# EAGLE library part TEENSY2.0++ (library Headers)
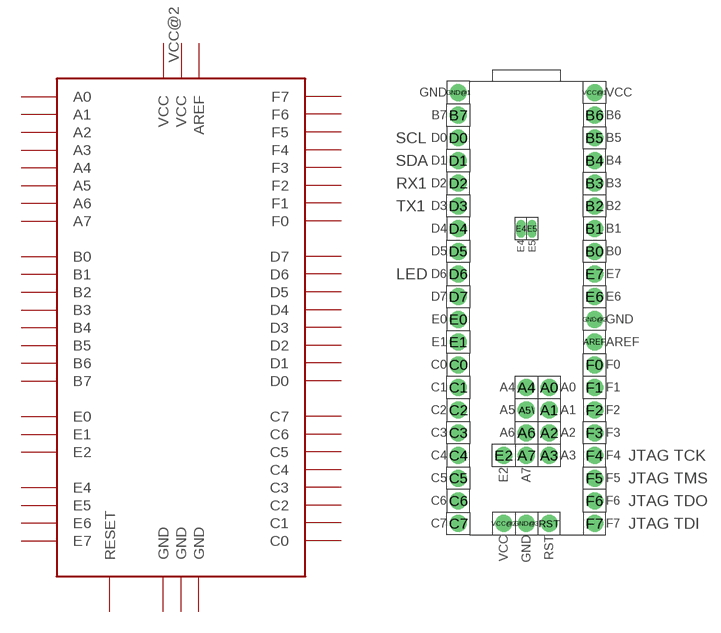
[diagram p3: symbol with the pads of TEENSY2.0++; footprint TEENSY2.0++]

Designator prefix U

## TEENSY2.0++  [TEENSY2.0++]
A0  A0
A1  A1
A2  A2
A3  A3
A4  A4
A5\  A5
A6  A6
A7  A7
AREF  AREF
B0  B0
B1  B1
B2  B2
B3  B3
B4  B4
B5  B5
B6  B6
B7  B7
C0  C0
C1  C1
C2  C2
C3  C3
C4  C4
C5  C5
C6  C6
C7  C7
D0  D0
D1  D1
D2  D2
D3  D3
D4  D4
D5  D5
D6  D6
D7  D7
E0  E0
E1  E1
E2  E2
E4  E4
E5  E5
E6  E6
E7  E7
F0  F0
F1  F1
F2  F2
F3  F3
F4  F4
F5  F5
F6  F6
F7  F7
GND@1  GND
GND@2  GND
GND@3  GND
RST  RESET
VCC@1  VCC
VCC@2  VCC

## Footprint TEENSY2.0++ (pad centres in mm)
Teensy 2.0 With Breadboard Headers
drill 1.1 pad 1.9: A0 2.54,-29.21; A1 2.54,-31.75; A2 2.54,-34.29; A3 2.54,-36.83; A4 0,-29.21; A5\ 0,-31.75; A6 0,-34.29; A7 0,-36.83; AREF 7.62,-24.13; B0 7.62,-13.97; B1 7.62,-11.43; B2 7.62,-8.89; B3 7.62,-6.35; B4 7.62,-3.81; B5 7.62,-1.27; B6 7.62,1.27; B7 -7.62,1.27; C0 -7.62,-26.67; C1 -7.62,-29.21; C2 -7.62,-31.75; C3 -7.62,-34.29; C4 -7.62,-36.83; C5 -7.62,-39.37; C6 -7.62,-41.91; C7 -7.62,-44.45; D0 -7.62,-1.27; D1 -7.62,-3.81; D2 -7.62,-6.35; D3 -7.62,-8.89; D4 -7.62,-11.43; D5 -7.62,-13.97; D6 -7.62,-16.51; D7 -7.62,-19.05; E0 -7.62,-21.59; E1 -7.62,-24.13; E2 -2.54,-36.83; E6 7.62,-19.05; E7 7.62,-16.51; F0 7.62,-26.67; F1 7.62,-29.21; F2 7.62,-31.75; F3 7.62,-34.29; F4 7.62,-36.83; F5 7.62,-39.37; F6 7.62,-41.91; F7 7.62,-44.45; GND@1 -7.62,3.81; GND@2 7.62,-21.59; GND@3 0,-44.45; RST 2.54,-44.45; VCC@1 7.62,3.81; VCC@2 -2.54,-44.45
drill 0.5 long: E4 -0.635,-11.43; E5 0.635,-11.43